# Altium integrated library TI_Logic_Gate.IntLib: 2017 symbols (part 30 of 56)
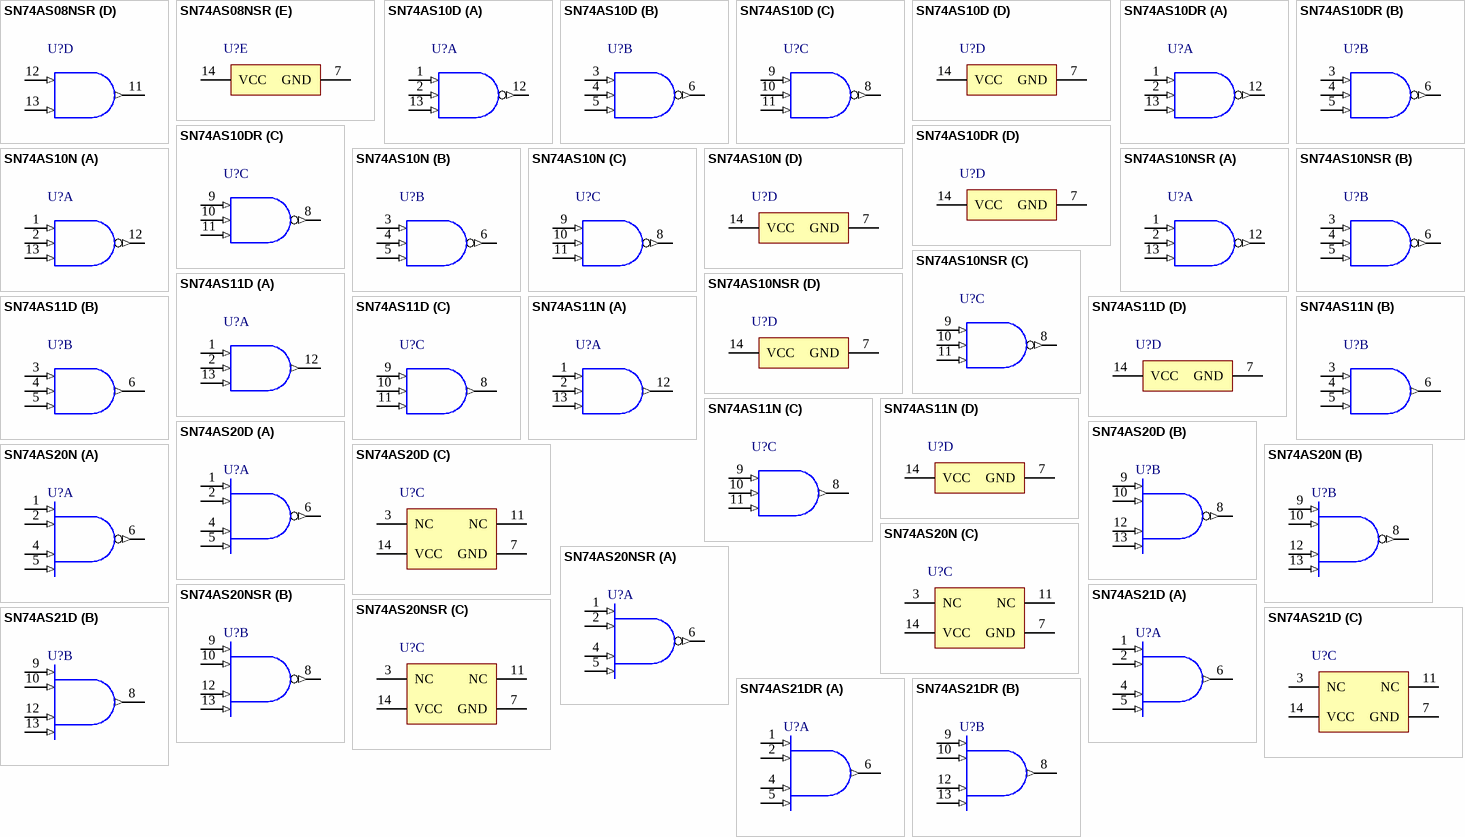
[diagram p254: symbols SN74AS08NSR to SN74AS21DR]

## SN74AS10DR
designator U?
Triple 3-Input Positive-NAND Gates, D0014A, LARGE T&R; Generic Part Number: SN74AS10; Manufacturer: Texas Instruments; PartNumber: SN74AS10DR; VCC(Min)(V): 4.5; VCC(Max)(V): 5.5; Output Type: TTL; ICC @ Nom Voltage(Max)(mA): 0.0022; Bits(#): 3; F @ Nom Voltage(Max)(Mhz): 35; Rating: Catalog; Technology Family: AS; Voltage(Nom)(V): 5; Schmitt Trigger: No; Output Drive (IOL/IOH)(Max)(mA): 0.4/-8; DatasheetVersion: SDAS002B; PackageReference: D0014A; Supplier 1: Mouser; Supplier Part Number 1: 595-SN74AS10DR; Supplier 2: Digi-Key; Supplier Part Number 2: 296-6333-2-ND; Supplier 3: Digi-Key; Supplier Part Number 3: 296-6333-1-ND; Supplier 4: Digi-Key; Supplier Part Number 4: 296-6333-6-ND; Input Type: TTL; Operating Temperature Range(C): 0 to 70; tpd @ Nom Voltage(Max)(ns): 4.5; Code_JEDEC: MS-012; ComponentLink1Description: Manufacturer URL; ComponentLink1URL: http://www.ti.com/; ComponentLink2Description: Datasheet; ComponentLink2URL: http://www.ti.com/lit/ds/symlink/sn74as10.pdf; ComponentLink3Description: Package Specification; ComponentLink3URL: http://www.ti.com/lit/ml/mpds177g/mpds177g.pdf
footprint D0014A_N (SOIC, 14-Leads, Body 8.75x4mm, Pitch 1.27mm, IPC Medium Density)
footprint D0014A_M (SOIC, 14-Leads, Body 8.75x4mm, Pitch 1.27mm, IPC Low Density)
footprint D0014A_L (SOIC, 14-Leads, Body 8.75x4mm, Pitch 1.27mm, IPC High Density)
part A pins: 1 1A (in), 2 1B (in), 12 1Y (out), 13 1C (in)
part B pins: 3 2A (in), 4 2B (in), 5 2C (in), 6 2Y (out)
part C pins: 8 3Y (out), 9 3A (in), 10 3B (in), 11 3C (in)
part D pins: 7 GND (power), 14 VCC (power)

## SN74AS10N
designator U?
Triple 3-Input Positive-NAND Gates, N0014A, TUBE; Generic Part Number: SN74AS10; Manufacturer: Texas Instruments; PartNumber: SN74AS10N; VCC(Min)(V): 4.5; VCC(Max)(V): 5.5; Output Type: TTL; ICC @ Nom Voltage(Max)(mA): 0.0022; Bits(#): 3; F @ Nom Voltage(Max)(Mhz): 35; Rating: Catalog; Technology Family: AS; Voltage(Nom)(V): 5; Schmitt Trigger: No; Output Drive (IOL/IOH)(Max)(mA): 0.4/-8; DatasheetVersion: SDAS002B; PackageReference: N0014A; Supplier 1: Mouser; Supplier Part Number 1: 595-SN74AS10N; Supplier 2: Digi-Key; Supplier Part Number 2: 296-6334-5-ND; Input Type: TTL; Operating Temperature Range(C): 0 to 70; tpd @ Nom Voltage(Max)(ns): 4.5; Code_JEDEC: MS-001; ComponentLink1Description: Manufacturer URL; ComponentLink1URL: http://www.ti.com/; ComponentLink2Description: Datasheet; ComponentLink2URL: http://www.ti.com/lit/ds/symlink/sn74as10.pdf; ComponentLink3Description: Package Specification; ComponentLink3URL: http://www.ti.com/lit/ml/mpdi002c/mpdi002c.pdf
footprint N0014A (DIP, 14-Leads, Body 19.7x6.6mm, Pitch 2.54mm)
part A pins: 1 1A (in), 2 1B (in), 12 1Y (out), 13 1C (in)
part B pins: 3 2A (in), 4 2B (in), 5 2C (in), 6 2Y (out)
part C pins: 8 3Y (out), 9 3A (in), 10 3B (in), 11 3C (in)
part D pins: 7 GND (power), 14 VCC (power)

## SN74AS10NSR
designator U?
Triple 3-Input Positive-NAND Gates, NS0014A, LARGE T&R; Generic Part Number: SN74AS10; Manufacturer: Texas Instruments; PartNumber: SN74AS10NSR; VCC(Min)(V): 4.5; VCC(Max)(V): 5.5; Output Type: TTL; ICC @ Nom Voltage(Max)(mA): 0.0022; Bits(#): 3; F @ Nom Voltage(Max)(Mhz): 35; Rating: Catalog; Technology Family: AS; Voltage(Nom)(V): 5; Schmitt Trigger: No; Output Drive (IOL/IOH)(Max)(mA): 0.4/-8; DatasheetVersion: SDAS002B; PackageReference: NS0014A; Supplier 1: Mouser; Supplier Part Number 1: 595-SN74AS10NSR; Supplier 2: Digi-Key; Supplier Part Number 2: SN74AS10NSR-ND; Input Type: TTL; Operating Temperature Range(C): 0 to 70; tpd @ Nom Voltage(Max)(ns): 4.5; ComponentLink1Description: Manufacturer URL; ComponentLink1URL: http://www.ti.com/; ComponentLink2Description: Datasheet; ComponentLink2URL: http://www.ti.com/lit/ds/symlink/sn74as10.pdf; ComponentLink3Description: Package Specification; ComponentLink3URL: http://www.ti.com/lit/ml/msop002a/msop002a.pdf
footprint NS0014A_N (SOIC,14-Leads,Body 10.5x5.6mm,Pitch 1.27mm,IPC Medium Density)
footprint NS0014A_M (SOIC,14-Leads,Body 10.5x5.6mm,Pitch 1.27mm,IPC Low Density)
footprint NS0014A_L (SOIC,14-Leads,Body 10.5x5.6mm,Pitch 0.4mm,IPC High Density)
part A pins: 1 1A (in), 2 1B (in), 12 1Y (out), 13 1C (in)
part B pins: 3 2A (in), 4 2B (in), 5 2C (in), 6 2Y (out)
part C pins: 8 3Y (out), 9 3A (in), 10 3B (in), 11 3C (in)
part D pins: 7 GND (power), 14 VCC (power)

## SN74AS11D
designator U?
Triple 3-Input Positive-AND Gates, D0014A, TUBE; Generic Part Number: SN74AS11; Manufacturer: Texas Instruments; PartNumber: SN74AS11D; VCC(Min)(V): 4.5; VCC(Max)(V): 5.5; Output Type: TTL; ICC @ Nom Voltage(Max)(mA): 0.0018; Bits(#): 3; F @ Nom Voltage(Max)(Mhz): 125; Rating: Catalog; Technology Family: AS; Voltage(Nom)(V): 5; Schmitt Trigger: No; Output Drive (IOL/IOH)(Max)(mA): -48/48; tpd @ Nom Voltage(Max)(ns): 13; DatasheetVersion: SDAS009D; PackageReference: D0014A; Supplier 1: Mouser; Supplier Part Number 1: 595-SN74AS11D; Supplier 2: Digi-Key; Supplier Part Number 2: 296-33792-5-ND; Input Type: TTL; Operating Temperature Range(C): 0 to 70; ComponentLink1Description: Manufacturer URL; ComponentLink1URL: http://www.ti.com/; ComponentLink2Description: Datasheet; ComponentLink2URL: http://www.ti.com/lit/ds/symlink/sn74as11.pdf
footprint D0014A_N (SOIC, 14-Leads, Body 8.75x4mm, Pitch 1.27mm, IPC Medium Density)
footprint D0014A_M (SOIC, 14-Leads, Body 8.75x4mm, Pitch 1.27mm, IPC Low Density)
footprint D0014A_L (SOIC, 14-Leads, Body 8.75x4mm, Pitch 1.27mm, IPC High Density)
part A pins: 1 1A (in), 2 1B (in), 12 1Y (out), 13 1C (in)
part B pins: 3 2A (in), 4 2B (in), 5 2C (in), 6 2Y (out)
part C pins: 8 3Y (out), 9 3A (in), 10 3B (in), 11 3C (in)
part D pins: 7 GND (power), 14 VCC (power)

## SN74AS11N
designator U?
Triple 3-Input Positive-AND Gates, N0014A, TUBE; Generic Part Number: SN74AS11; Manufacturer: Texas Instruments; PartNumber: SN74AS11N; VCC(Min)(V): 4.5; VCC(Max)(V): 5.5; Output Type: TTL; ICC @ Nom Voltage(Max)(mA): 0.0018; Bits(#): 3; F @ Nom Voltage(Max)(Mhz): 125; Rating: Catalog; Technology Family: AS; Voltage(Nom)(V): 5; Schmitt Trigger: No; Output Drive (IOL/IOH)(Max)(mA): -48/48; tpd @ Nom Voltage(Max)(ns): 13; DatasheetVersion: SDAS009D; PackageReference: N0014A; Supplier 1: Mouser; Supplier Part Number 1: 595-SN74AS11N; Supplier 2: Digi-Key; Supplier Part Number 2: 296-33793-5-ND; Input Type: TTL; Operating Temperature Range(C): 0 to 70; ComponentLink1Description: Manufacturer URL; ComponentLink1URL: http://www.ti.com/; ComponentLink2Description: Datasheet; ComponentLink2URL: http://www.ti.com/lit/ds/symlink/sn74as11.pdf
footprint N0014A (DIP, 14-Leads, Body 19.7x6.6mm, Pitch 2.54mm)
part A pins: 1 1A (in), 2 1B (in), 12 1Y (out), 13 1C (in)
part B pins: 3 2A (in), 4 2B (in), 5 2C (in), 6 2Y (out)
part C pins: 8 3Y (out), 9 3A (in), 10 3B (in), 11 3C (in)
part D pins: 7 GND (power), 14 VCC (power)

## SN74AS20D
designator U?
Dual 4-Input Positive-NAND Gates, D0014A, TUBE; Generic Part Number: SN74AS20; Manufacturer: Texas Instruments; PartNumber: SN74AS20D; VCC(Min)(V): 4.5; VCC(Max)(V): 5.5; Output Type: TTL; ICC @ Nom Voltage(Max)(mA): 0.0015; Bits(#): 2; F @ Nom Voltage(Max)(Mhz): 35; Rating: Catalog; Technology Family: AS; Voltage(Nom)(V): 5; Schmitt Trigger: No; Output Drive (IOL/IOH)(Max)(mA): 0.4/-8; tpd @ Nom Voltage(Max)(ns): 11; DatasheetVersion: SDAS192B; PackageReference: D0014A; Supplier 1: Mouser; Supplier Part Number 1: 595-SN74AS20D; Supplier 2: Digi-Key; Supplier Part Number 2: 296-6342-5-ND; Input Type: TTL; Operating Temperature Range(C): 0 to 70; Code_JEDEC: MS-012; ComponentLink1Description: Manufacturer URL; ComponentLink1URL: http://www.ti.com/; ComponentLink2Description: Datasheet; ComponentLink2URL: http://www.ti.com/lit/ds/symlink/sn74as20.pdf; ComponentLink3Description: Package Specification; ComponentLink3URL: http://www.ti.com/lit/ml/mpds177g/mpds177g.pdf
footprint D0014A_N (SOIC, 14-Leads, Body 8.75x4mm, Pitch 1.27mm, IPC Medium Density)
footprint D0014A_M (SOIC, 14-Leads, Body 8.75x4mm, Pitch 1.27mm, IPC Low Density)
footprint D0014A_L (SOIC, 14-Leads, Body 8.75x4mm, Pitch 1.27mm, IPC High Density)
part A pins: 1 1A (in), 2 1B (in), 4 1C (in), 5 1D (in), 6 1Y (out)
part B pins: 8 2Y (out), 9 2A (in), 10 2B (in), 12 2C (in), 13 2D (in)
part C pins: 3 NC, 7 GND (power), 11 NC, 14 VCC (power)

## SN74AS20N
designator U?
Dual 4-Input Positive-NAND Gates, N0014A, TUBE; Generic Part Number: SN74AS20; Manufacturer: Texas Instruments; PartNumber: SN74AS20N; VCC(Min)(V): 4.5; VCC(Max)(V): 5.5; Output Type: TTL; ICC @ Nom Voltage(Max)(mA): 0.0015; Bits(#): 2; F @ Nom Voltage(Max)(Mhz): 35; Rating: Catalog; Technology Family: AS; Voltage(Nom)(V): 5; Schmitt Trigger: No; Output Drive (IOL/IOH)(Max)(mA): 0.4/-8; tpd @ Nom Voltage(Max)(ns): 11; DatasheetVersion: SDAS192B; PackageReference: N0014A; Supplier 1: Mouser; Supplier Part Number 1: 595-SN74AS20N; Supplier 2: Digi-Key; Supplier Part Number 2: 296-33798-5-ND; Input Type: TTL; Operating Temperature Range(C): 0 to 70; Code_JEDEC: MS-001; ComponentLink1Description: Manufacturer URL; ComponentLink1URL: http://www.ti.com/; ComponentLink2Description: Datasheet; ComponentLink2URL: http://www.ti.com/lit/ds/symlink/sn74as20.pdf; ComponentLink3Description: Package Specification; ComponentLink3URL: http://www.ti.com/lit/ml/mpdi002c/mpdi002c.pdf
footprint N0014A (DIP, 14-Leads, Body 19.7x6.6mm, Pitch 2.54mm)
part A pins: 1 1A (in), 2 1B (in), 4 1C (in), 5 1D (in), 6 1Y (out)
part B pins: 8 2Y (out), 9 2A (in), 10 2B (in), 12 2C (in), 13 2D (in)
part C pins: 3 NC, 7 GND (power), 11 NC, 14 VCC (power)

## SN74AS20NSR
designator U?
Dual 4-Input Positive-NAND Gates, NS0014A, LARGE T&R; Generic Part Number: SN74AS20; Manufacturer: Texas Instruments; PartNumber: SN74AS20NSR; VCC(Min)(V): 4.5; VCC(Max)(V): 5.5; Output Type: TTL; ICC @ Nom Voltage(Max)(mA): 0.0015; Bits(#): 2; F @ Nom Voltage(Max)(Mhz): 35; Rating: Catalog; Technology Family: AS; Voltage(Nom)(V): 5; Schmitt Trigger: No; Output Drive (IOL/IOH)(Max)(mA): 0.4/-8; tpd @ Nom Voltage(Max)(ns): 11; DatasheetVersion: SDAS192B; PackageReference: NS0014A; Supplier 1: Mouser; Supplier Part Number 1: 595-SN74AS20NSR; Supplier 2: Digi-Key; Supplier Part Number 2: SN74AS20NSR-ND; Input Type: TTL; Operating Temperature Range(C): 0 to 70; ComponentLink1Description: Manufacturer URL; ComponentLink1URL: http://www.ti.com/; ComponentLink2Description: Datasheet; ComponentLink2URL: http://www.ti.com/lit/ds/symlink/sn74as20.pdf; ComponentLink3Description: Package Specification; ComponentLink3URL: http://www.ti.com/lit/ml/msop002a/msop002a.pdf
footprint NS0014A_N (SOIC,14-Leads,Body 10.5x5.6mm,Pitch 1.27mm,IPC Medium Density)
footprint NS0014A_M (SOIC,14-Leads,Body 10.5x5.6mm,Pitch 1.27mm,IPC Low Density)
footprint NS0014A_L (SOIC,14-Leads,Body 10.5x5.6mm,Pitch 0.4mm,IPC High Density)
part A pins: 1 1A (in), 2 1B (in), 4 1C (in), 5 1D (in), 6 1Y (out)
part B pins: 8 2Y (out), 9 2A (in), 10 2B (in), 12 2C (in), 13 2D (in)
part C pins: 3 NC, 7 GND (power), 11 NC, 14 VCC (power)

## SN74AS21D
designator U?
Dual 4-Input Positive-AND Gates, D0014A, TUBE; Generic Part Number: SN74AS21; Manufacturer: Texas Instruments; PartNumber: SN74AS21D; VCC(Min)(V): 4.5; VCC(Max)(V): 5.5; Output Type: TTL; ICC @ Nom Voltage(Max)(mA): 0.0014; Bits(#): 2; F @ Nom Voltage(Max)(Mhz): 125; Rating: Catalog; Technology Family: AS; Voltage(Nom)(V): 5; Schmitt Trigger: No; Output Drive (IOL/IOH)(Max)(mA): -48/48; tpd @ Nom Voltage(Max)(ns): 15; DatasheetVersion: SDAS085B; PackageReference: D0014A; Supplier 1: Mouser; Supplier Part Number 1: 595-SN74AS21D; Supplier 2: Digi-Key; Supplier Part Number 2: 296-33799-5-ND; Input Type: TTL; Operating Temperature Range(C): 0 to 70; ComponentLink1Description: Manufacturer URL; ComponentLink1URL: http://www.ti.com/; ComponentLink2Description: Datasheet; ComponentLink2URL: http://www.ti.com/lit/ds/symlink/sn74as21.pdf
footprint D0014A_N (SOIC, 14-Leads, Body 8.75x4mm, Pitch 1.27mm, IPC Medium Density)
footprint D0014A_M (SOIC, 14-Leads, Body 8.75x4mm, Pitch 1.27mm, IPC Low Density)
footprint D0014A_L (SOIC, 14-Leads, Body 8.75x4mm, Pitch 1.27mm, IPC High Density)
part A pins: 1 1A (in), 2 1B (in), 4 1C (in), 5 1D (in), 6 1Y (out)
part B pins: 8 2Y (out), 9 2A (in), 10 2B (in), 12 2C (in), 13 2D (in)
part C pins: 3 NC, 7 GND (power), 11 NC, 14 VCC (power)

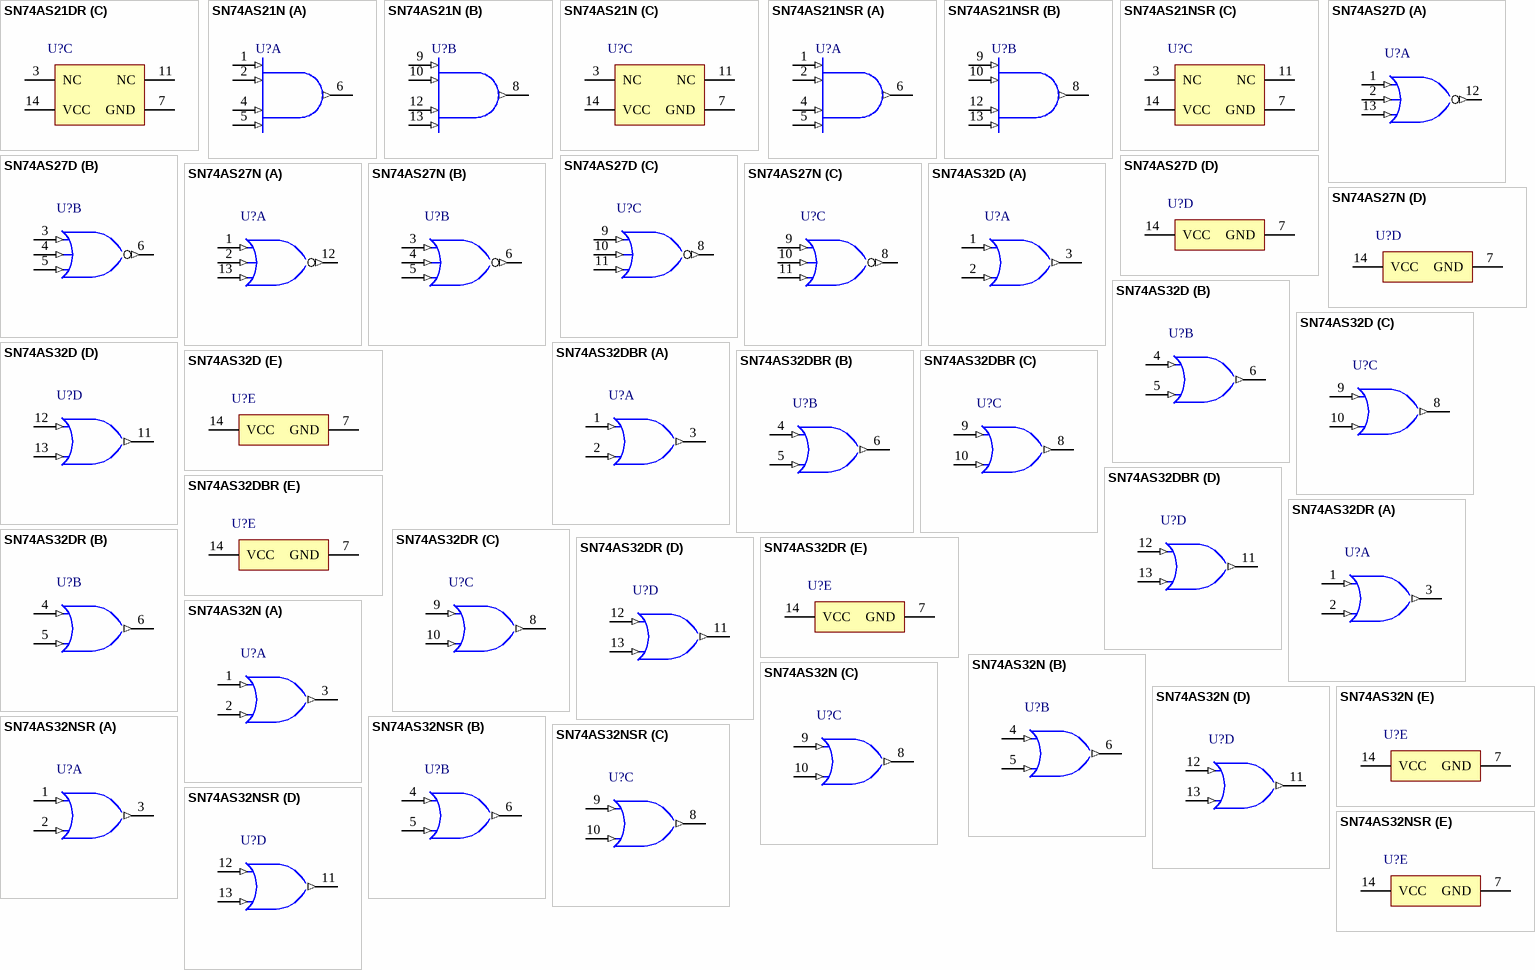
[diagram p119: symbols SN74AS21DR to SN74AS32NSR]

## SN74AS21DR
designator U?
Dual 4-Input Positive-AND Gates, D0014A, LARGE T&R; Generic Part Number: SN74AS21; Manufacturer: Texas Instruments; PartNumber: SN74AS21DR; VCC(Min)(V): 4.5; VCC(Max)(V): 5.5; Output Type: TTL; ICC @ Nom Voltage(Max)(mA): 0.0014; Bits(#): 2; F @ Nom Voltage(Max)(Mhz): 125; Rating: Catalog; Technology Family: AS; Voltage(Nom)(V): 5; Schmitt Trigger: No; Output Drive (IOL/IOH)(Max)(mA): -48/48; tpd @ Nom Voltage(Max)(ns): 15; DatasheetVersion: SDAS085B; PackageReference: D0014A; Supplier 1: Mouser; Supplier Part Number 1: 595-SN74AS21DR; Supplier 2: Digi-Key; Supplier Part Number 2: SN74AS21DR-ND; Input Type: TTL; Operating Temperature Range(C): 0 to 70; ComponentLink1Description: Manufacturer URL; ComponentLink1URL: http://www.ti.com/; ComponentLink2Description: Datasheet; ComponentLink2URL: http://www.ti.com/lit/ds/symlink/sn74as21.pdf
footprint D0014A_N (SOIC, 14-Leads, Body 8.75x4mm, Pitch 1.27mm, IPC Medium Density)
footprint D0014A_M (SOIC, 14-Leads, Body 8.75x4mm, Pitch 1.27mm, IPC Low Density)
footprint D0014A_L (SOIC, 14-Leads, Body 8.75x4mm, Pitch 1.27mm, IPC High Density)
part A pins: 1 1A (in), 2 1B (in), 4 1C (in), 5 1D (in), 6 1Y (out)
part B pins: 8 2Y (out), 9 2A (in), 10 2B (in), 12 2C (in), 13 2D (in)
part C pins: 3 NC, 7 GND (power), 11 NC, 14 VCC (power)

## SN74AS21N
designator U?
Dual 4-Input Positive-AND Gates, N0014A, TUBE; Generic Part Number: SN74AS21; Manufacturer: Texas Instruments; PartNumber: SN74AS21N; VCC(Min)(V): 4.5; VCC(Max)(V): 5.5; Output Type: TTL; ICC @ Nom Voltage(Max)(mA): 0.0014; Bits(#): 2; F @ Nom Voltage(Max)(Mhz): 125; Rating: Catalog; Technology Family: AS; Voltage(Nom)(V): 5; Schmitt Trigger: No; Output Drive (IOL/IOH)(Max)(mA): -48/48; tpd @ Nom Voltage(Max)(ns): 15; DatasheetVersion: SDAS085B; PackageReference: N0014A; Supplier 1: Mouser; Supplier Part Number 1: 595-SN74AS21N; Supplier 2: Digi-Key; Supplier Part Number 2: 296-33800-5-ND; Input Type: TTL; Operating Temperature Range(C): 0 to 70; ComponentLink1Description: Manufacturer URL; ComponentLink1URL: http://www.ti.com/; ComponentLink2Description: Datasheet; ComponentLink2URL: http://www.ti.com/lit/ds/symlink/sn74as21.pdf
footprint N0014A (DIP, 14-Leads, Body 19.7x6.6mm, Pitch 2.54mm)
part A pins: 1 1A (in), 2 1B (in), 4 1C (in), 5 1D (in), 6 1Y (out)
part B pins: 8 2Y (out), 9 2A (in), 10 2B (in), 12 2C (in), 13 2D (in)
part C pins: 3 NC, 7 GND (power), 11 NC, 14 VCC (power)

## SN74AS21NSR
designator U?
Dual 4-Input Positive-AND Gates, NS0014A, LARGE T&R; Generic Part Number: SN74AS21; Manufacturer: Texas Instruments; PartNumber: SN74AS21NSR; VCC(Min)(V): 4.5; VCC(Max)(V): 5.5; Output Type: TTL; ICC @ Nom Voltage(Max)(mA): 0.0014; Bits(#): 2; F @ Nom Voltage(Max)(Mhz): 125; Rating: Catalog; Technology Family: AS; Voltage(Nom)(V): 5; Schmitt Trigger: No; Output Drive (IOL/IOH)(Max)(mA): -48/48; tpd @ Nom Voltage(Max)(ns): 15; DatasheetVersion: SDAS085B; PackageReference: NS0014A; Supplier 1: Mouser; Supplier Part Number 1: 595-SN74AS21NSR; Supplier 2: Digi-Key; Supplier Part Number 2: 296-13162-2-ND; Supplier 3: Digi-Key; Supplier Part Number 3: 296-13162-1-ND; Supplier 4: Digi-Key; Supplier Part Number 4: 296-13162-6-ND; Input Type: TTL; Operating Temperature Range(C): 0 to 70; ComponentLink1Description: Manufacturer URL; ComponentLink1URL: http://www.ti.com/; ComponentLink2Description: Datasheet; ComponentLink2URL: http://www.ti.com/lit/ds/symlink/sn74as21.pdf
footprint NS0014A_N (SOIC,14-Leads,Body 10.5x5.6mm,Pitch 1.27mm,IPC Medium Density)
footprint NS0014A_M (SOIC,14-Leads,Body 10.5x5.6mm,Pitch 1.27mm,IPC Low Density)
footprint NS0014A_L (SOIC,14-Leads,Body 10.5x5.6mm,Pitch 0.4mm,IPC High Density)
part A pins: 1 1A (in), 2 1B (in), 4 1C (in), 5 1D (in), 6 1Y (out)
part B pins: 8 2Y (out), 9 2A (in), 10 2B (in), 12 2C (in), 13 2D (in)
part C pins: 3 NC, 7 GND (power), 11 NC, 14 VCC (power)

## SN74AS27D
designator U?
Triple 3-Input Positive-NOR Gates, D0014A, TUBE; Generic Part Number: SN74AS27; Manufacturer: Texas Instruments; PartNumber: SN74AS27D; VCC(Min)(V): 4.5; VCC(Max)(V): 5.5; Output Type: TTL; Bits(#): 3; Rating: Catalog; tpd @ Nom Voltage(Max)(ns): 15; ICC @ Nom Voltage(Max)(mA): 0.004; F @ Nom Voltage(Max)(Mhz): 35; Voltage(Nom)(V): 5; Output Drive (IOL/IOH)(Max)(mA): 0.4/-8; DatasheetVersion: SDAS112B; PackageReference: D0014A; Input Type: TTL; Operating Temperature Range(C): 0 to 70; Code_JEDEC: MS-012; ComponentLink1Description: Manufacturer URL; ComponentLink1URL: http://www.ti.com/; ComponentLink2Description: Datasheet; ComponentLink2URL: http://www.ti.com/lit/ds/symlink/sn74as27.pdf; ComponentLink3Description: Package Specification; ComponentLink3URL: http://www.ti.com/lit/ml/mpds177g/mpds177g.pdf
footprint D0014A_N (SOIC, 14-Leads, Body 8.75x4mm, Pitch 1.27mm, IPC Medium Density)
footprint D0014A_M (SOIC, 14-Leads, Body 8.75x4mm, Pitch 1.27mm, IPC Low Density)
footprint D0014A_L (SOIC, 14-Leads, Body 8.75x4mm, Pitch 1.27mm, IPC High Density)
part A pins: 1 1A (in), 2 1B (in), 12 1Y (out), 13 1C (in)
part B pins: 3 2A (in), 4 2B (in), 5 2C (in), 6 2Y (out)
part C pins: 8 3Y (out), 9 3A (in), 10 3B (in), 11 3C (in)
part D pins: 7 GND (power), 14 VCC (power)

## SN74AS27N
designator U?
Triple 3-Input Positive-NOR Gates, N0014A, TUBE; Generic Part Number: SN74AS27; Manufacturer: Texas Instruments; PartNumber: SN74AS27N; VCC(Min)(V): 4.5; VCC(Max)(V): 5.5; Output Type: TTL; Bits(#): 3; Rating: Catalog; tpd @ Nom Voltage(Max)(ns): 15; ICC @ Nom Voltage(Max)(mA): 0.004; F @ Nom Voltage(Max)(Mhz): 35; Voltage(Nom)(V): 5; Output Drive (IOL/IOH)(Max)(mA): 0.4/-8; DatasheetVersion: SDAS112B; PackageReference: N0014A; Input Type: TTL; Operating Temperature Range(C): 0 to 70; Code_JEDEC: MS-001; ComponentLink1Description: Manufacturer URL; ComponentLink1URL: http://www.ti.com/; ComponentLink2Description: Datasheet; ComponentLink2URL: http://www.ti.com/lit/ds/symlink/sn74as27.pdf; ComponentLink3Description: Package Specification; ComponentLink3URL: http://www.ti.com/lit/ml/mpdi002c/mpdi002c.pdf
footprint N0014A (DIP, 14-Leads, Body 19.7x6.6mm, Pitch 2.54mm)
part A pins: 1 1A (in), 2 1B (in), 12 1Y (out), 13 1C (in)
part B pins: 3 2A (in), 4 2B (in), 5 2C (in), 6 2Y (out)
part C pins: 8 3Y (out), 9 3A (in), 10 3B (in), 11 3C (in)
part D pins: 7 GND (power), 14 VCC (power)

## SN74AS32D
designator U?
Quadruple 2-Input Positive-OR Gates, D0014A, TUBE; Generic Part Number: SN74AS32; Manufacturer: Texas Instruments; PartNumber: SN74AS32D; VCC(Min)(V): 4.5; VCC(Max)(V): 5.5; Output Type: TTL; ICC @ Nom Voltage(Max)(mA): 0.0049; Bits(#): 4; F @ Nom Voltage(Max)(Mhz): 35; Rating: Catalog; Voltage(Nom)(V): 5; Output Drive (IOL/IOH)(Max)(mA): 0.4/-8; tpd @ Nom Voltage(Max)(ns): 14; DatasheetVersion: SDAS113B; PackageReference: D0014A; Input Type: TTL; Operating Temperature Range(C): 0 to 70; Code_JEDEC: MS-012; ComponentLink1Description: Manufacturer URL; ComponentLink1URL: http://www.ti.com/; ComponentLink2Description: Datasheet; ComponentLink2URL: http://www.ti.com/lit/ds/symlink/sn74as32.pdf; ComponentLink3Description: Package Specification; ComponentLink3URL: http://www.ti.com/lit/ml/mpds177g/mpds177g.pdf
footprint D0014A_N (SOIC, 14-Leads, Body 8.75x4mm, Pitch 1.27mm, IPC Medium Density)
footprint D0014A_M (SOIC, 14-Leads, Body 8.75x4mm, Pitch 1.27mm, IPC Low Density)
footprint D0014A_L (SOIC, 14-Leads, Body 8.75x4mm, Pitch 1.27mm, IPC High Density)
part A pins: 1 1A (in), 2 1B (in), 3 1Y (out)
part B pins: 4 2A (in), 5 2B (in), 6 2Y (out)
part C pins: 8 3Y (out), 9 3A (in), 10 3B (in)
part D pins: 11 4Y (out), 12 4A (in), 13 4B (in)
part E pins: 7 GND (power), 14 VCC (power)

## SN74AS32DBR
designator U?
Quadruple 2-Input Positive-OR Gates, DB0014A, LARGE T&R; Generic Part Number: SN74AS32; Manufacturer: Texas Instruments; PartNumber: SN74AS32DBR; VCC(Min)(V): 4.5; VCC(Max)(V): 5.5; Output Type: TTL; ICC @ Nom Voltage(Max)(mA): 0.0049; Bits(#): 4; F @ Nom Voltage(Max)(Mhz): 35; Rating: Catalog; Voltage(Nom)(V): 5; Output Drive (IOL/IOH)(Max)(mA): 0.4/-8; tpd @ Nom Voltage(Max)(ns): 14; DatasheetVersion: SDAS113B; PackageReference: DB0014A; Input Type: TTL; Operating Temperature Range(C): 0 to 70; Code_JEDEC: MO-150; ComponentLink1Description: Manufacturer URL; ComponentLink1URL: http://www.ti.com/; ComponentLink2Description: Datasheet; ComponentLink2URL: http://www.ti.com/lit/ds/symlink/sn74as32.pdf; ComponentLink3Description: Package Specification; ComponentLink3URL: http://www.ti.com/lit/ml/msso002e/msso002e.pdf
footprint DB0014A_N (SOP, 14-Leads, Body 5.6x6.5mm, Pitch 0.65mm, IPC Medium Density)
footprint DB0014A_M (SOP, 14-Leads, Body 5.6x6.5mm, Pitch 0.65mm, IPC Low Density)
footprint DB0014A_L (SOP, 14-Leads, Body 5.6x6.5mm, Pitch 0.65mm, IPC High Density)
part A pins: 1 1A (in), 2 1B (in), 3 1Y (out)
part B pins: 4 2A (in), 5 2B (in), 6 2Y (out)
part C pins: 8 3Y (out), 9 3A (in), 10 3B (in)
part D pins: 11 4Y (out), 12 4A (in), 13 4B (in)
part E pins: 7 GND (power), 14 VCC (power)

## SN74AS32DR
designator U?
Quadruple 2-Input Positive-OR Gates, D0014A, LARGE T&R; Generic Part Number: SN74AS32; Manufacturer: Texas Instruments; PartNumber: SN74AS32DR; VCC(Min)(V): 4.5; VCC(Max)(V): 5.5; Output Type: TTL; ICC @ Nom Voltage(Max)(mA): 0.0049; Bits(#): 4; F @ Nom Voltage(Max)(Mhz): 35; Rating: Catalog; Voltage(Nom)(V): 5; Output Drive (IOL/IOH)(Max)(mA): 0.4/-8; tpd @ Nom Voltage(Max)(ns): 14; DatasheetVersion: SDAS113B; PackageReference: D0014A; Input Type: TTL; Operating Temperature Range(C): 0 to 70; Code_JEDEC: MS-012; ComponentLink1Description: Manufacturer URL; ComponentLink1URL: http://www.ti.com/; ComponentLink2Description: Datasheet; ComponentLink2URL: http://www.ti.com/lit/ds/symlink/sn74as32.pdf; ComponentLink3Description: Package Specification; ComponentLink3URL: http://www.ti.com/lit/ml/mpds177g/mpds177g.pdf
footprint D0014A_N (SOIC, 14-Leads, Body 8.75x4mm, Pitch 1.27mm, IPC Medium Density)
footprint D0014A_M (SOIC, 14-Leads, Body 8.75x4mm, Pitch 1.27mm, IPC Low Density)
footprint D0014A_L (SOIC, 14-Leads, Body 8.75x4mm, Pitch 1.27mm, IPC High Density)
part A pins: 1 1A (in), 2 1B (in), 3 1Y (out)
part B pins: 4 2A (in), 5 2B (in), 6 2Y (out)
part C pins: 8 3Y (out), 9 3A (in), 10 3B (in)
part D pins: 11 4Y (out), 12 4A (in), 13 4B (in)
part E pins: 7 GND (power), 14 VCC (power)

## SN74AS32N
designator U?
Quadruple 2-Input Positive-OR Gates, N0014A, TUBE; Generic Part Number: SN74AS32; Manufacturer: Texas Instruments; PartNumber: SN74AS32N; VCC(Min)(V): 4.5; VCC(Max)(V): 5.5; Output Type: TTL; ICC @ Nom Voltage(Max)(mA): 0.0049; Bits(#): 4; F @ Nom Voltage(Max)(Mhz): 35; Rating: Catalog; Voltage(Nom)(V): 5; Output Drive (IOL/IOH)(Max)(mA): 0.4/-8; tpd @ Nom Voltage(Max)(ns): 14; DatasheetVersion: SDAS113B; PackageReference: N0014A; Input Type: TTL; Operating Temperature Range(C): 0 to 70; Code_JEDEC: MS-001; ComponentLink1Description: Manufacturer URL; ComponentLink1URL: http://www.ti.com/; ComponentLink2Description: Datasheet; ComponentLink2URL: http://www.ti.com/lit/ds/symlink/sn74as32.pdf; ComponentLink3Description: Package Specification; ComponentLink3URL: http://www.ti.com/lit/ml/mpdi002c/mpdi002c.pdf
footprint N0014A (DIP, 14-Leads, Body 19.7x6.6mm, Pitch 2.54mm)
part A pins: 1 1A (in), 2 1B (in), 3 1Y (out)
part B pins: 4 2A (in), 5 2B (in), 6 2Y (out)
part C pins: 8 3Y (out), 9 3A (in), 10 3B (in)
part D pins: 11 4Y (out), 12 4A (in), 13 4B (in)
part E pins: 7 GND (power), 14 VCC (power)

## SN74AS32NSR
designator U?
Quadruple 2-Input Positive-OR Gates, NS0014A, LARGE T&R; Generic Part Number: SN74AS32; Manufacturer: Texas Instruments; PartNumber: SN74AS32NSR; VCC(Min)(V): 4.5; VCC(Max)(V): 5.5; Output Type: TTL; ICC @ Nom Voltage(Max)(mA): 0.0049; Bits(#): 4; F @ Nom Voltage(Max)(Mhz): 35; Rating: Catalog; Voltage(Nom)(V): 5; Output Drive (IOL/IOH)(Max)(mA): 0.4/-8; tpd @ Nom Voltage(Max)(ns): 14; DatasheetVersion: SDAS113B; PackageReference: NS0014A; Input Type: TTL; Operating Temperature Range(C): 0 to 70; ComponentLink1Description: Manufacturer URL; ComponentLink1URL: http://www.ti.com/; ComponentLink2Description: Datasheet; ComponentLink2URL: http://www.ti.com/lit/ds/symlink/sn74as32.pdf; ComponentLink3Description: Package Specification; ComponentLink3URL: http://www.ti.com/lit/ml/msop002a/msop002a.pdf
footprint NS0014A_N (SOIC,14-Leads,Body 10.5x5.6mm,Pitch 1.27mm,IPC Medium Density)
footprint NS0014A_M (SOIC,14-Leads,Body 10.5x5.6mm,Pitch 1.27mm,IPC Low Density)
footprint NS0014A_L (SOIC,14-Leads,Body 10.5x5.6mm,Pitch 0.4mm,IPC High Density)
part A pins: 1 1A (in), 2 1B (in), 3 1Y (out)
part B pins: 4 2A (in), 5 2B (in), 6 2Y (out)
part C pins: 8 3Y (out), 9 3A (in), 10 3B (in)
part D pins: 11 4Y (out), 12 4A (in), 13 4B (in)
part E pins: 7 GND (power), 14 VCC (power)

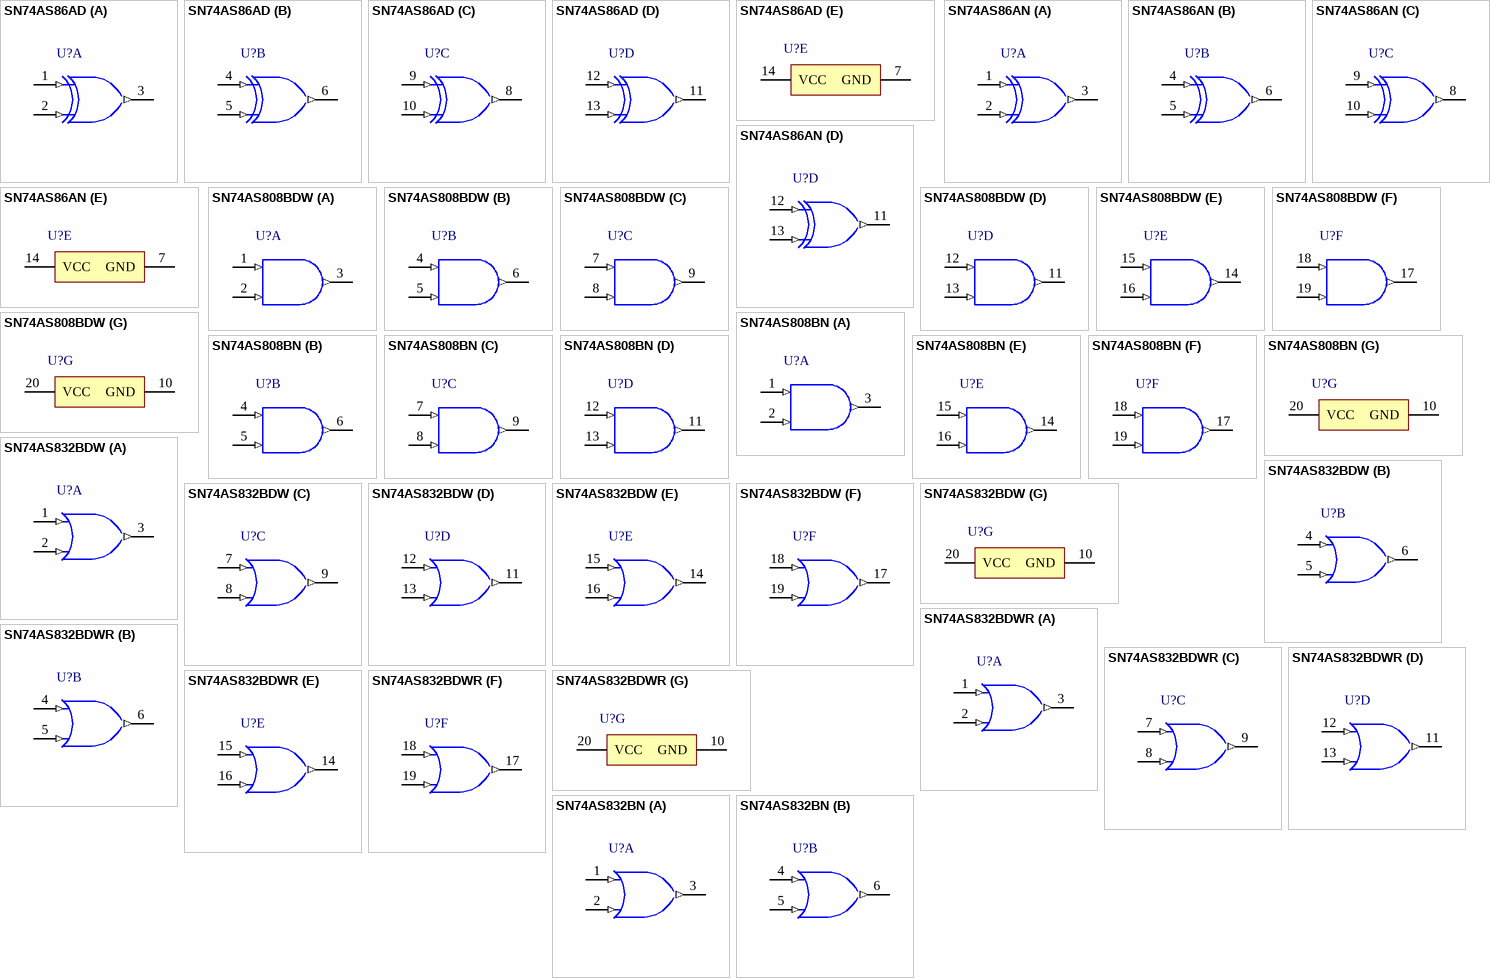
[diagram p120: symbols SN74AS86AD to SN74AS832BN]

## SN74AS86AD
designator U?
Quadruple 2-Input Exclusive-OR Gates, D0014A, TUBE; Generic Part Number: SN74AS86A; Manufacturer: Texas Instruments; PartNumber: SN74AS86AD; VCC(Min)(V): 4.5; VCC(Max)(V): 5.5; Output Type: TTL; ICC @ Nom Voltage(Max)(mA): 0.0059; Bits(#): 4; F @ Nom Voltage(Max)(Mhz): 35; Rating: Catalog; Technology Family: AS; Voltage(Nom)(V): 5; Schmitt Trigger: No; Output Drive (IOL/IOH)(Max)(mA): 2/-20; tpd @ Nom Voltage(Max)(ns): 17; DatasheetVersion: SDAS006B; PackageReference: D0014A; Supplier 1: Mouser; Supplier Part Number 1: 595-SN74AS86AD; Supplier 2: Digi-Key; Supplier Part Number 2: SN74AS86AD-ND; Input Type: TTL; Operating Temperature Range(C): 0 to 70; ComponentLink1Description: Manufacturer URL; ComponentLink1URL: http://www.ti.com/; ComponentLink2Description: Datasheet; ComponentLink2URL: http://www.ti.com/lit/ds/symlink/sn74as86a.pdf
footprint D0014A_N (SOIC, 14-Leads, Body 8.75x4mm, Pitch 1.27mm, IPC Medium Density)
footprint D0014A_M (SOIC, 14-Leads, Body 8.75x4mm, Pitch 1.27mm, IPC Low Density)
footprint D0014A_L (SOIC, 14-Leads, Body 8.75x4mm, Pitch 1.27mm, IPC High Density)
part A pins: 1 1A (in), 2 1B (in), 3 1Y (out)
part B pins: 4 2A (in), 5 2B (in), 6 2Y (out)
part C pins: 8 3Y (out), 9 3A (in), 10 3B (in)
part D pins: 11 4Y (out), 12 4A (in), 13 4B (in)
part E pins: 7 GND (power), 14 VCC (power)

## SN74AS86AN
designator U?
Quadruple 2-Input Exclusive-OR Gates, N0014A, TUBE; Generic Part Number: SN74AS86A; Manufacturer: Texas Instruments; PartNumber: SN74AS86AN; VCC(Min)(V): 4.5; VCC(Max)(V): 5.5; Output Type: TTL; ICC @ Nom Voltage(Max)(mA): 0.0059; Bits(#): 4; F @ Nom Voltage(Max)(Mhz): 35; Rating: Catalog; Technology Family: AS; Voltage(Nom)(V): 5; Schmitt Trigger: No; Output Drive (IOL/IOH)(Max)(mA): 2/-20; tpd @ Nom Voltage(Max)(ns): 17; DatasheetVersion: SDAS006B; PackageReference: N0014A; Supplier 1: Mouser; Supplier Part Number 1: 595-SN74AS86AN; Supplier 2: Digi-Key; Supplier Part Number 2: 296-33823-5-ND; Input Type: TTL; Operating Temperature Range(C): 0 to 70; ComponentLink1Description: Manufacturer URL; ComponentLink1URL: http://www.ti.com/; ComponentLink2Description: Datasheet; ComponentLink2URL: http://www.ti.com/lit/ds/symlink/sn74as86a.pdf
footprint N0014A (DIP, 14-Leads, Body 19.7x6.6mm, Pitch 2.54mm)
part A pins: 1 1A (in), 2 1B (in), 3 1Y (out)
part B pins: 4 2A (in), 5 2B (in), 6 2Y (out)
part C pins: 8 3Y (out), 9 3A (in), 10 3B (in)
part D pins: 11 4Y (out), 12 4A (in), 13 4B (in)
part E pins: 7 GND (power), 14 VCC (power)

## SN74AS808BDW
designator U?
Hex 2-Input AND Drivers, DW0020A, TUBE; Generic Part Number: SN74AS808B; Manufacturer: Texas Instruments; PartNumber: SN74AS808BDW; VCC(Min)(V): 4.5; VCC(Max)(V): 5.5; Output Type: TTL; ICC @ Nom Voltage(Max)(mA): 0.013; Bits(#): 6; F @ Nom Voltage(Max)(Mhz): 125; Rating: Catalog; Technology Family: AS; Voltage(Nom)(V): 5; Schmitt Trigger: No; Output Drive (IOL/IOH)(Max)(mA): -2/20; DatasheetVersion: SDAS018C; PackageReference: DW0020A; Supplier 1: Mouser; Supplier Part Number 1: 595-SN74AS808BDW; Supplier 2: Digi-Key; Supplier Part Number 2: 296-33820-5-ND; Input Type: TTL; Operating Temperature Range(C): 0 to 70; tpd @ Nom Voltage(Max)(ns): 6; ComponentLink1Description: Manufacturer URL; ComponentLink1URL: http://www.ti.com/; ComponentLink2Description: Datasheet; ComponentLink2URL: http://www.ti.com/lit/ds/symlink/sn74as808b.pdf
footprint DW0020A_N (SOIC, 20-Leads, Body 13x7.6mm, Pitch 1.27mm, IPC Medium Density)
footprint DW0020A_M (SOIC, 20-Leads, Body 13x7.6mm, Pitch 1.27mm, IPC Low Density)
footprint DW0020A_L (SOIC, 20-Leads, Body 13x7.6mm, Pitch 1.27mm, IPC High Density)
part A pins: 1 1A (in), 2 1B (in), 3 1Y (out)
part B pins: 4 2A (in), 5 2B (in), 6 2Y (out)
part C pins: 7 3A (in), 8 3B (in), 9 3Y (out)
part D pins: 11 4Y (out), 12 4A (in), 13 4B (in)
part E pins: 14 5Y (out), 15 5A (in), 16 5B (in)
part F pins: 17 6Y (out), 18 6A (in), 19 6B (in)
part G pins: 10 GND (power), 20 VCC (power)

## SN74AS808BN
designator U?
Hex 2-Input AND Drivers, N0020A, TUBE; Generic Part Number: SN74AS808B; Manufacturer: Texas Instruments; PartNumber: SN74AS808BN; VCC(Min)(V): 4.5; VCC(Max)(V): 5.5; Output Type: TTL; ICC @ Nom Voltage(Max)(mA): 0.013; Bits(#): 6; F @ Nom Voltage(Max)(Mhz): 125; Rating: Catalog; Technology Family: AS; Voltage(Nom)(V): 5; Schmitt Trigger: No; Output Drive (IOL/IOH)(Max)(mA): -2/20; DatasheetVersion: SDAS018C; PackageReference: N0020A; Supplier 1: Mouser; Supplier Part Number 1: 595-SN74AS808BN; Supplier 2: Digi-Key; Supplier Part Number 2: 296-6374-5-ND; Input Type: TTL; Operating Temperature Range(C): 0 to 70; tpd @ Nom Voltage(Max)(ns): 6; ComponentLink1Description: Manufacturer URL; ComponentLink1URL: http://www.ti.com/; ComponentLink2Description: Datasheet; ComponentLink2URL: http://www.ti.com/lit/ds/symlink/sn74as808b.pdf
footprint N0020A (DIP, 20-Leads, Body 26.9x6.6mm, Pitch 2.54mm)
part A pins: 1 1A (in), 2 1B (in), 3 1Y (out)
part B pins: 4 2A (in), 5 2B (in), 6 2Y (out)
part C pins: 7 3A (in), 8 3B (in), 9 3Y (out)
part D pins: 11 4Y (out), 12 4A (in), 13 4B (in)
part E pins: 14 5Y (out), 15 5A (in), 16 5B (in)
part F pins: 17 6Y (out), 18 6A (in), 19 6B (in)
part G pins: 10 GND (power), 20 VCC (power)

## SN74AS832BDW
designator U?
Hex 2-Input OR Drivers, DW0020A, TUBE; Generic Part Number: SN74AS832B; Manufacturer: Texas Instruments; PartNumber: SN74AS832BDW; VCC(Min)(V): 4.5; VCC(Max)(V): 5.5; Output Type: TTL; ICC @ Nom Voltage(Max)(mA): 0.016; Bits(#): 6; F @ Nom Voltage(Max)(Mhz): 35; Rating: Catalog; Voltage(Nom)(V): 5; Output Drive (IOL/IOH)(Max)(mA): 15/-24; tpd @ Nom Voltage(Max)(ns): 9; DatasheetVersion: SDAS017C; PackageReference: DW0020A; Input Type: TTL; Operating Temperature Range(C): 0 to 70; Code_JEDEC: MS-013; ComponentLink1Description: Manufacturer URL; ComponentLink1URL: http://www.ti.com/; ComponentLink2Description: Datasheet; ComponentLink2URL: http://www.ti.com/lit/ds/symlink/sn74as832b.pdf; ComponentLink3Description: Package Specification; ComponentLink3URL: http://www.ti.com/lit/ml/mpds173a/mpds173a.pdf
footprint DW0020A_N (SOIC, 20-Leads, Body 13x7.6mm, Pitch 1.27mm, IPC Medium Density)
footprint DW0020A_M (SOIC, 20-Leads, Body 13x7.6mm, Pitch 1.27mm, IPC Low Density)
footprint DW0020A_L (SOIC, 20-Leads, Body 13x7.6mm, Pitch 1.27mm, IPC High Density)
part A pins: 1 1A (in), 2 1B (in), 3 1Y (out)
part B pins: 4 2A (in), 5 2B (in), 6 2Y (out)
part C pins: 7 3A (in), 8 3B (in), 9 3Y (out)
part D pins: 11 4Y (out), 12 4A (in), 13 4B (in)
part E pins: 14 5Y (out), 15 5A (in), 16 5B (in)
part F pins: 17 6Y (out), 18 6A (in), 19 6B (in)
part G pins: 10 GND (power), 20 VCC (power)

## SN74AS832BDWR
designator U?
Hex 2-Input OR Drivers, DW0020A, LARGE T&R; Generic Part Number: SN74AS832B; Manufacturer: Texas Instruments; PartNumber: SN74AS832BDWR; VCC(Min)(V): 4.5; VCC(Max)(V): 5.5; Output Type: TTL; ICC @ Nom Voltage(Max)(mA): 0.016; Bits(#): 6; F @ Nom Voltage(Max)(Mhz): 35; Rating: Catalog; Voltage(Nom)(V): 5; Output Drive (IOL/IOH)(Max)(mA): 15/-24; tpd @ Nom Voltage(Max)(ns): 9; DatasheetVersion: SDAS017C; PackageReference: DW0020A; Input Type: TTL; Operating Temperature Range(C): 0 to 70; Code_JEDEC: MS-013; ComponentLink1Description: Manufacturer URL; ComponentLink1URL: http://www.ti.com/; ComponentLink2Description: Datasheet; ComponentLink2URL: http://www.ti.com/lit/ds/symlink/sn74as832b.pdf; ComponentLink3Description: Package Specification; ComponentLink3URL: http://www.ti.com/lit/ml/mpds173a/mpds173a.pdf
footprint DW0020A_N (SOIC, 20-Leads, Body 13x7.6mm, Pitch 1.27mm, IPC Medium Density)
footprint DW0020A_M (SOIC, 20-Leads, Body 13x7.6mm, Pitch 1.27mm, IPC Low Density)
footprint DW0020A_L (SOIC, 20-Leads, Body 13x7.6mm, Pitch 1.27mm, IPC High Density)
part A pins: 1 1A (in), 2 1B (in), 3 1Y (out)
part B pins: 4 2A (in), 5 2B (in), 6 2Y (out)
part C pins: 7 3A (in), 8 3B (in), 9 3Y (out)
part D pins: 11 4Y (out), 12 4A (in), 13 4B (in)
part E pins: 14 5Y (out), 15 5A (in), 16 5B (in)
part F pins: 17 6Y (out), 18 6A (in), 19 6B (in)
part G pins: 10 GND (power), 20 VCC (power)

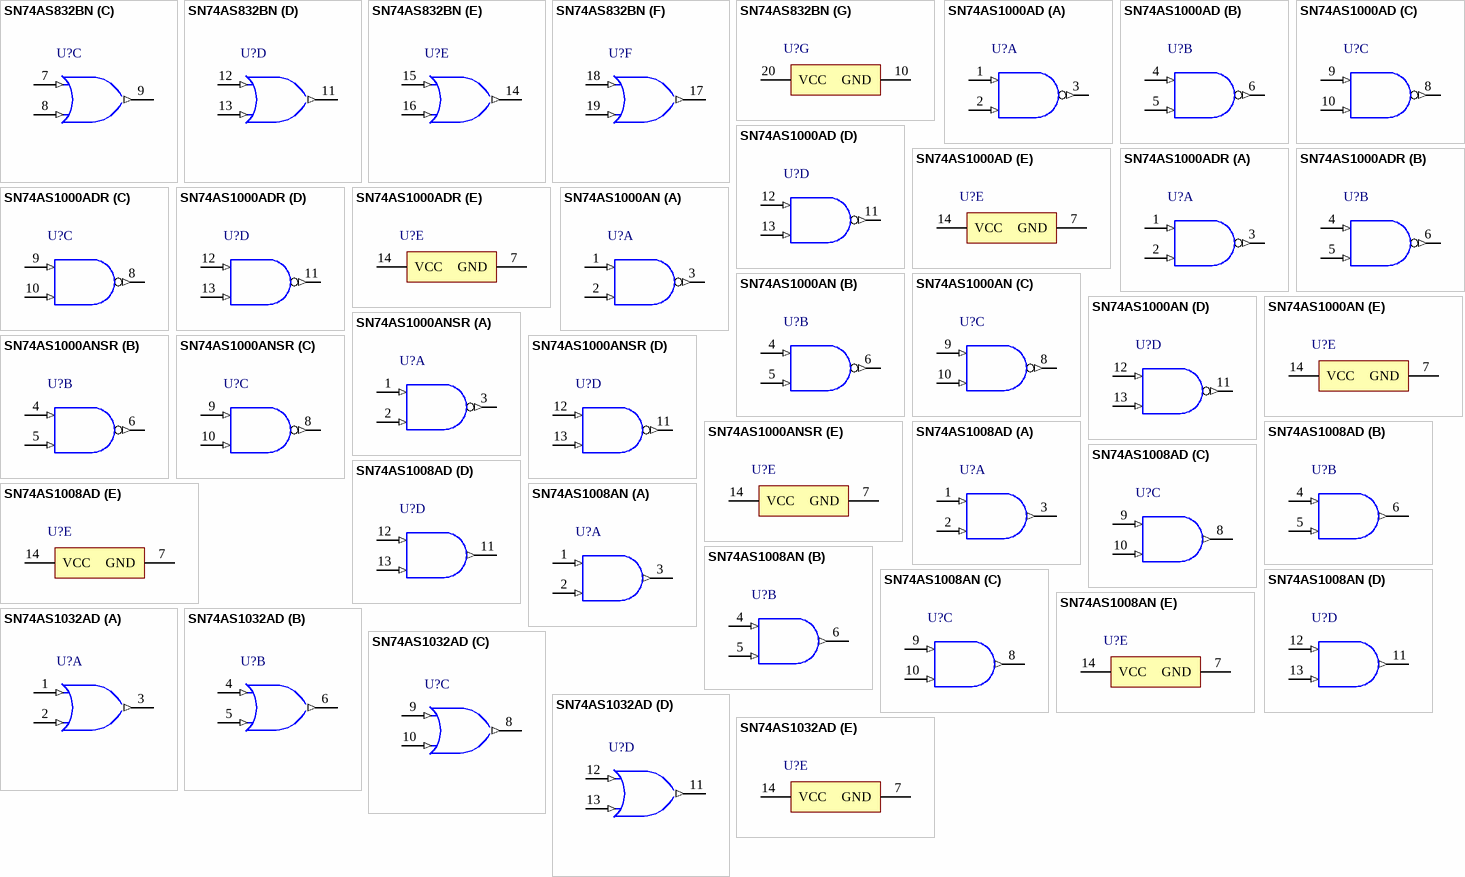
[diagram p121: symbols SN74AS832BN to SN74AS1032AD]

## SN74AS832BN
designator U?
Hex 2-Input OR Drivers, N0020A, TUBE; Generic Part Number: SN74AS832B; Manufacturer: Texas Instruments; PartNumber: SN74AS832BN; VCC(Min)(V): 4.5; VCC(Max)(V): 5.5; Output Type: TTL; ICC @ Nom Voltage(Max)(mA): 0.016; Bits(#): 6; F @ Nom Voltage(Max)(Mhz): 35; Rating: Catalog; Voltage(Nom)(V): 5; Output Drive (IOL/IOH)(Max)(mA): 15/-24; tpd @ Nom Voltage(Max)(ns): 9; DatasheetVersion: SDAS017C; PackageReference: N0020A; Input Type: TTL; Operating Temperature Range(C): 0 to 70; Code_JEDEC: MS-001; ComponentLink1Description: Manufacturer URL; ComponentLink1URL: http://www.ti.com/; ComponentLink2Description: Datasheet; ComponentLink2URL: http://www.ti.com/lit/ds/symlink/sn74as832b.pdf; ComponentLink3Description: Package Specification; ComponentLink3URL: http://www.ti.com/lit/ml/mpdi002c/mpdi002c.pdf
footprint N0020A (DIP, 20-Leads, Body 26.9x6.6mm, Pitch 2.54mm)
part A pins: 1 1A (in), 2 1B (in), 3 1Y (out)
part B pins: 4 2A (in), 5 2B (in), 6 2Y (out)
part C pins: 7 3A (in), 8 3B (in), 9 3Y (out)
part D pins: 11 4Y (out), 12 4A (in), 13 4B (in)
part E pins: 14 5Y (out), 15 5A (in), 16 5B (in)
part F pins: 17 6Y (out), 18 6A (in), 19 6B (in)
part G pins: 10 GND (power), 20 VCC (power)

## SN74AS1000AD
designator U?
Quadruple 2-Input Positive-NAND Buffers/Drivers, D0014A, TUBE; Generic Part Number: SN74AS1000A; Manufacturer: Texas Instruments; PartNumber: SN74AS1000AD; VCC(Min)(V): 4.5; VCC(Max)(V): 5.5; Output Type: TTL; ICC @ Nom Voltage(Max)(mA): 0.019; Bits(#): 4; F @ Nom Voltage(Max)(Mhz): 35; Rating: Catalog; Technology Family: AS; Voltage(Nom)(V): 5; Schmitt Trigger: No; Output Drive (IOL/IOH)(Max)(mA): 48/-48; DatasheetVersion: SDAS056B; PackageReference: D0014A; Supplier 1: Mouser; Supplier Part Number 1: 595-SN74AS1000AD; Supplier 2: Digi-Key; Supplier Part Number 2: 296-6326-5-ND; Input Type: TTL; Operating Temperature Range(C): 0 to 70; tpd @ Nom Voltage(Max)(ns): 4; Code_JEDEC: MS-012; ComponentLink1Description: Manufacturer URL; ComponentLink1URL: http://www.ti.com/; ComponentLink2Description: Datasheet; ComponentLink2URL: http://www.ti.com/lit/ds/symlink/sn74as1000a.pdf; ComponentLink3Description: Package Specification; ComponentLink3URL: http://www.ti.com/lit/ml/mpds177g/mpds177g.pdf
footprint D0014A_N (SOIC, 14-Leads, Body 8.75x4mm, Pitch 1.27mm, IPC Medium Density)
footprint D0014A_M (SOIC, 14-Leads, Body 8.75x4mm, Pitch 1.27mm, IPC Low Density)
footprint D0014A_L (SOIC, 14-Leads, Body 8.75x4mm, Pitch 1.27mm, IPC High Density)
part A pins: 1 1A (in) "Gate 1 input", 2 1B (in) "Gate 1 input", 3 1Y (out) "Gate 1 output"
part B pins: 4 2A (in) "Gate 2 input", 5 2B (in) "Gate 2 input", 6 2Y (out) "Gate 2 output"
part C pins: 8 3Y (out) "Gate 3 output", 9 3A (in) "Gate 3 input", 10 3B (in) "Gate 3 input"
part D pins: 11 4Y (out) "Gate 4 output", 12 4A (in) "Gate 4 input", 13 4B (in) "Gate 4 input"
part E pins: 7 GND (power) "Ground Pin", 14 VCC (power) "Power Pin"

## SN74AS1000ADR
designator U?
Quadruple 2-Input Positive-NAND Buffers/Drivers, D0014A, LARGE T&R; Generic Part Number: SN74AS1000A; Manufacturer: Texas Instruments; PartNumber: SN74AS1000ADR; VCC(Min)(V): 4.5; VCC(Max)(V): 5.5; Output Type: TTL; ICC @ Nom Voltage(Max)(mA): 0.019; Bits(#): 4; F @ Nom Voltage(Max)(Mhz): 35; Rating: Catalog; Technology Family: AS; Voltage(Nom)(V): 5; Schmitt Trigger: No; Output Drive (IOL/IOH)(Max)(mA): 48/-48; DatasheetVersion: SDAS056B; PackageReference: D0014A; Supplier 1: Mouser; Supplier Part Number 1: 595-SN74AS1000ADR; Supplier 2: Digi-Key; Supplier Part Number 2: 296-14791-2-ND; Supplier 3: Digi-Key; Supplier Part Number 3: 296-14791-1-ND; Supplier 4: Digi-Key; Supplier Part Number 4: 296-14791-6-ND; Input Type: TTL; Operating Temperature Range(C): 0 to 70; tpd @ Nom Voltage(Max)(ns): 4; Code_JEDEC: MS-012; ComponentLink1Description: Manufacturer URL; ComponentLink1URL: http://www.ti.com/; ComponentLink2Description: Datasheet; ComponentLink2URL: http://www.ti.com/lit/ds/symlink/sn74as1000a.pdf; ComponentLink3Description: Package Specification; ComponentLink3URL: http://www.ti.com/lit/ml/mpds177g/mpds177g.pdf
footprint D0014A_N (SOIC, 14-Leads, Body 8.75x4mm, Pitch 1.27mm, IPC Medium Density)
footprint D0014A_M (SOIC, 14-Leads, Body 8.75x4mm, Pitch 1.27mm, IPC Low Density)
footprint D0014A_L (SOIC, 14-Leads, Body 8.75x4mm, Pitch 1.27mm, IPC High Density)
part A pins: 1 1A (in) "Gate 1 input", 2 1B (in) "Gate 1 input", 3 1Y (out) "Gate 1 output"
part B pins: 4 2A (in) "Gate 2 input", 5 2B (in) "Gate 2 input", 6 2Y (out) "Gate 2 output"
part C pins: 8 3Y (out) "Gate 3 output", 9 3A (in) "Gate 3 input", 10 3B (in) "Gate 3 input"
part D pins: 11 4Y (out) "Gate 4 output", 12 4A (in) "Gate 4 input", 13 4B (in) "Gate 4 input"
part E pins: 7 GND (power) "Ground Pin", 14 VCC (power) "Power Pin"

## SN74AS1000AN
designator U?
Quadruple 2-Input Positive-NAND Buffers/Drivers, N0014A, TUBE; Generic Part Number: SN74AS1000A; Manufacturer: Texas Instruments; PartNumber: SN74AS1000AN; VCC(Min)(V): 4.5; VCC(Max)(V): 5.5; Output Type: TTL; ICC @ Nom Voltage(Max)(mA): 0.019; Bits(#): 4; F @ Nom Voltage(Max)(Mhz): 35; Rating: Catalog; Technology Family: AS; Voltage(Nom)(V): 5; Schmitt Trigger: No; Output Drive (IOL/IOH)(Max)(mA): 48/-48; DatasheetVersion: SDAS056B; PackageReference: N0014A; Supplier 1: Mouser; Supplier Part Number 1: 595-SN74AS1000AN; Supplier 2: Digi-Key; Supplier Part Number 2: 296-33786-5-ND; Input Type: TTL; Operating Temperature Range(C): 0 to 70; tpd @ Nom Voltage(Max)(ns): 4; Code_JEDEC: MS-001; ComponentLink1Description: Manufacturer URL; ComponentLink1URL: http://www.ti.com/; ComponentLink2Description: Datasheet; ComponentLink2URL: http://www.ti.com/lit/ds/symlink/sn74as1000a.pdf; ComponentLink3Description: Package Specification; ComponentLink3URL: http://www.ti.com/lit/ml/mpdi002c/mpdi002c.pdf
footprint N0014A (DIP, 14-Leads, Body 19.7x6.6mm, Pitch 2.54mm)
part A pins: 1 1A (in) "Gate 1 input", 2 1B (in) "Gate 1 input", 3 1Y (out) "Gate 1 output"
part B pins: 4 2A (in) "Gate 2 input", 5 2B (in) "Gate 2 input", 6 2Y (out) "Gate 2 output"
part C pins: 8 3Y (out) "Gate 3 output", 9 3A (in) "Gate 3 input", 10 3B (in) "Gate 3 input"
part D pins: 11 4Y (out) "Gate 4 output", 12 4A (in) "Gate 4 input", 13 4B (in) "Gate 4 input"
part E pins: 7 GND (power) "Ground Pin", 14 VCC (power) "Power Pin"

## SN74AS1000ANSR
designator U?
Quadruple 2-Input Positive-NAND Buffers/Drivers, NS0014A, LARGE T&R; Generic Part Number: SN74AS1000A; Manufacturer: Texas Instruments; PartNumber: SN74AS1000ANSR; VCC(Min)(V): 4.5; VCC(Max)(V): 5.5; Output Type: TTL; ICC @ Nom Voltage(Max)(mA): 0.019; Bits(#): 4; F @ Nom Voltage(Max)(Mhz): 35; Rating: Catalog; Technology Family: AS; Voltage(Nom)(V): 5; Schmitt Trigger: No; Output Drive (IOL/IOH)(Max)(mA): 48/-48; DatasheetVersion: SDAS056B; PackageReference: NS0014A; Supplier 1: Mouser; Supplier Part Number 1: 595-SN74AS1000ANSR; Supplier 2: Digi-Key; Supplier Part Number 2: 296-28870-2-ND; Supplier 3: Digi-Key; Supplier Part Number 3: 296-28870-1-ND; Supplier 4: Digi-Key; Supplier Part Number 4: 296-28870-6-ND; Input Type: TTL; Operating Temperature Range(C): 0 to 70; tpd @ Nom Voltage(Max)(ns): 4; ComponentLink1Description: Manufacturer URL; ComponentLink1URL: http://www.ti.com/; ComponentLink2Description: Datasheet; ComponentLink2URL: http://www.ti.com/lit/ds/symlink/sn74as1000a.pdf; ComponentLink3Description: Package Specification; ComponentLink3URL: http://www.ti.com/lit/ml/msop002a/msop002a.pdf
footprint NS0014A_N (SOIC,14-Leads,Body 10.5x5.6mm,Pitch 1.27mm,IPC Medium Density)
footprint NS0014A_M (SOIC,14-Leads,Body 10.5x5.6mm,Pitch 1.27mm,IPC Low Density)
footprint NS0014A_L (SOIC,14-Leads,Body 10.5x5.6mm,Pitch 0.4mm,IPC High Density)
part A pins: 1 1A (in) "Gate 1 input", 2 1B (in) "Gate 1 input", 3 1Y (out) "Gate 1 output"
part B pins: 4 2A (in) "Gate 2 input", 5 2B (in) "Gate 2 input", 6 2Y (out) "Gate 2 output"
part C pins: 8 3Y (out) "Gate 3 output", 9 3A (in) "Gate 3 input", 10 3B (in) "Gate 3 input"
part D pins: 11 4Y (out) "Gate 4 output", 12 4A (in) "Gate 4 input", 13 4B (in) "Gate 4 input"
part E pins: 7 GND (power) "Ground Pin", 14 VCC (power) "Power Pin"

## SN74AS1008AD
designator U?
Quadruple 2-Input Positive-AND Buffers/Drivers, D0014A, TUBE; Generic Part Number: SN74AS1008A; Manufacturer: Texas Instruments; PartNumber: SN74AS1008AD; VCC(Min)(V): 4.5; VCC(Max)(V): 5.5; Output Type: TTL; ICC @ Nom Voltage(Max)(mA): 0.0095; Bits(#): 4; F @ Nom Voltage(Max)(Mhz): 125; Rating: Catalog; Technology Family: AS; Voltage(Nom)(V): 5; Schmitt Trigger: No; Output Drive (IOL/IOH)(Max)(mA): -0.4/8; tpd @ Nom Voltage(Max)(ns): 6; DatasheetVersion: SDAS071B; PackageReference: D0014A; Supplier 1: Mouser; Supplier Part Number 1: 595-SN74AS1008AD; Supplier 2: Digi-Key; Supplier Part Number 2: 296-33787-5-ND; Input Type: TTL; Operating Temperature Range(C): 0 to 70; ComponentLink1Description: Manufacturer URL; ComponentLink1URL: http://www.ti.com/; ComponentLink2Description: Datasheet; ComponentLink2URL: http://www.ti.com/lit/ds/symlink/sn74as1008a.pdf
footprint D0014A_N (SOIC, 14-Leads, Body 8.75x4mm, Pitch 1.27mm, IPC Medium Density)
footprint D0014A_M (SOIC, 14-Leads, Body 8.75x4mm, Pitch 1.27mm, IPC Low Density)
footprint D0014A_L (SOIC, 14-Leads, Body 8.75x4mm, Pitch 1.27mm, IPC High Density)
part A pins: 1 1A (in), 2 1B (in), 3 1Y (out)
part B pins: 4 2A (in), 5 2B (in), 6 2Y (out)
part C pins: 8 3Y (out), 9 3A (in), 10 3B (in)
part D pins: 11 4Y (out), 12 4A (in), 13 4B (in)
part E pins: 7 GND (power), 14 VCC (power)

## SN74AS1008AN
designator U?
Quadruple 2-Input Positive-AND Buffers/Drivers, N0014A, TUBE; Generic Part Number: SN74AS1008A; Manufacturer: Texas Instruments; PartNumber: SN74AS1008AN; VCC(Min)(V): 4.5; VCC(Max)(V): 5.5; Output Type: TTL; ICC @ Nom Voltage(Max)(mA): 0.0095; Bits(#): 4; F @ Nom Voltage(Max)(Mhz): 125; Rating: Catalog; Technology Family: AS; Voltage(Nom)(V): 5; Schmitt Trigger: No; Output Drive (IOL/IOH)(Max)(mA): -0.4/8; tpd @ Nom Voltage(Max)(ns): 6; DatasheetVersion: SDAS071B; PackageReference: N0014A; Supplier 1: Mouser; Supplier Part Number 1: 595-SN74AS1008AN; Supplier 2: Digi-Key; Supplier Part Number 2: 296-33788-5-ND; Input Type: TTL; Operating Temperature Range(C): 0 to 70; ComponentLink1Description: Manufacturer URL; ComponentLink1URL: http://www.ti.com/; ComponentLink2Description: Datasheet; ComponentLink2URL: http://www.ti.com/lit/ds/symlink/sn74as1008a.pdf
footprint N0014A (DIP, 14-Leads, Body 19.7x6.6mm, Pitch 2.54mm)
part A pins: 1 1A (in), 2 1B (in), 3 1Y (out)
part B pins: 4 2A (in), 5 2B (in), 6 2Y (out)
part C pins: 8 3Y (out), 9 3A (in), 10 3B (in)
part D pins: 11 4Y (out), 12 4A (in), 13 4B (in)
part E pins: 7 GND (power), 14 VCC (power)

## SN74AS1032AD
designator U?
Quadruple 2-Input Positive-OR Buffers/Drivers, D0014A, TUBE; Generic Part Number: SN74AS1032A; Manufacturer: Texas Instruments; PartNumber: SN74AS1032AD; VCC(Min)(V): 4.5; VCC(Max)(V): 5.5; Output Type: TTL; ICC @ Nom Voltage(Max)(mA): 0.0115; Bits(#): 4; F @ Nom Voltage(Max)(Mhz): 35; Rating: Catalog; Voltage(Nom)(V): 5; Output Drive (IOL/IOH)(Max)(mA): 48/-48; tpd @ Nom Voltage(Max)(ns): 6.3; DatasheetVersion: SDAS072B; PackageReference: D0014A; Input Type: TTL; Operating Temperature Range(C): 0 to 70; Code_JEDEC: MS-012; ComponentLink1Description: Manufacturer URL; ComponentLink1URL: http://www.ti.com/; ComponentLink2Description: Datasheet; ComponentLink2URL: http://www.ti.com/lit/ds/symlink/sn74as1032a.pdf; ComponentLink3Description: Package Specification; ComponentLink3URL: http://www.ti.com/lit/ml/mpds177g/mpds177g.pdf
footprint D0014A_N (SOIC, 14-Leads, Body 8.75x4mm, Pitch 1.27mm, IPC Medium Density)
footprint D0014A_M (SOIC, 14-Leads, Body 8.75x4mm, Pitch 1.27mm, IPC Low Density)
footprint D0014A_L (SOIC, 14-Leads, Body 8.75x4mm, Pitch 1.27mm, IPC High Density)
part A pins: 1 1A (in), 2 1B (in), 3 1Y (out)
part B pins: 4 2A (in), 5 2B (in), 6 2Y (out)
part C pins: 8 3Y (out), 9 3A (in), 10 3B (in)
part D pins: 11 4Y (out), 12 4A (in), 13 4B (in)
part E pins: 7 GND (power), 14 VCC (power)

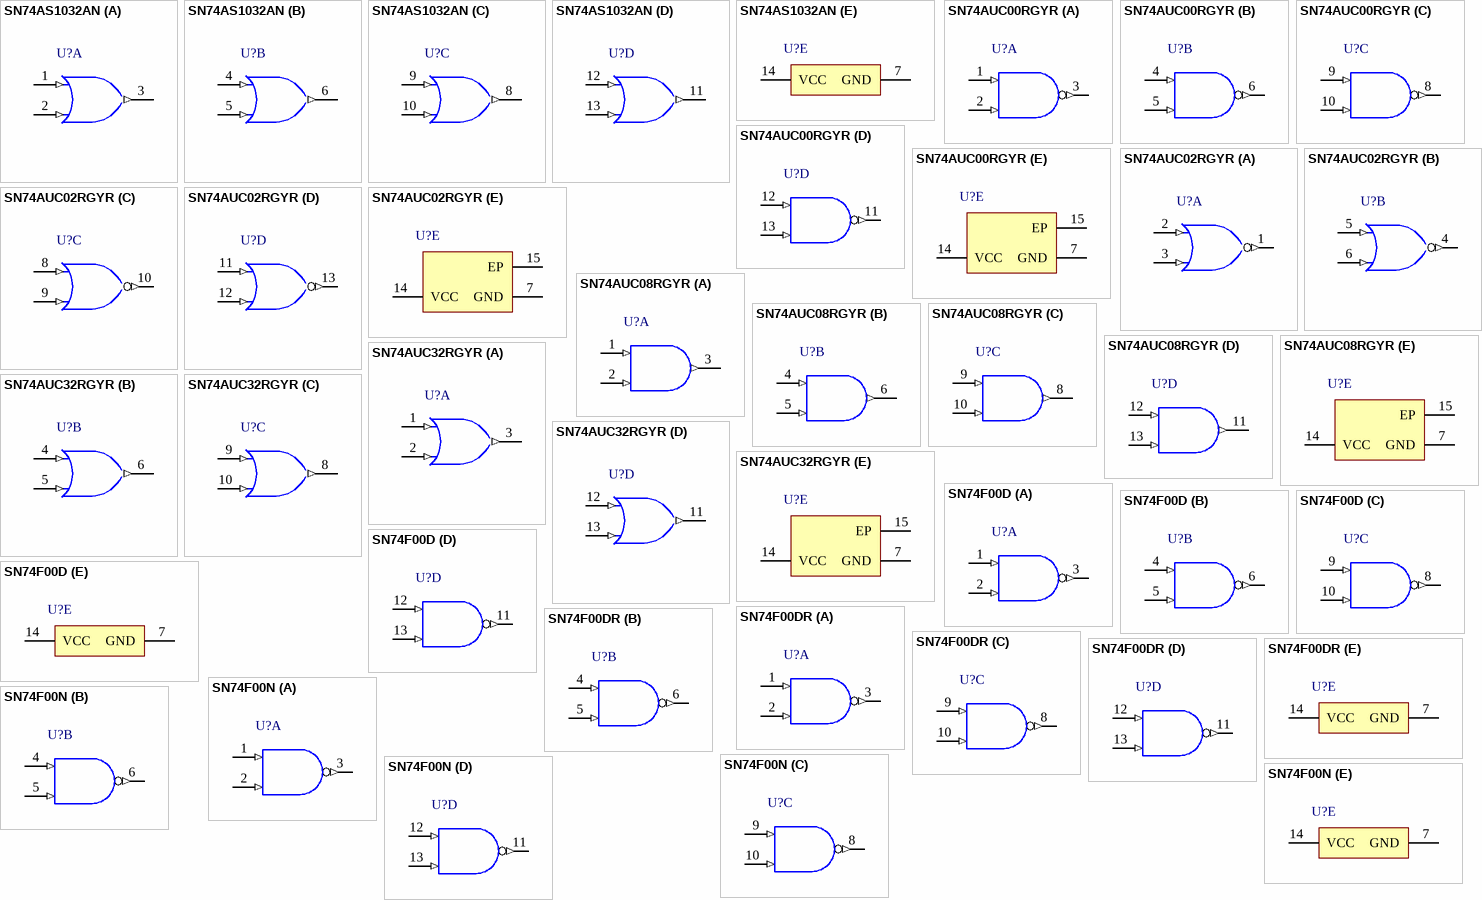
[diagram p122: symbols SN74AS1032AN to SN74F00N]

## SN74AS1032AN
designator U?
Quadruple 2-Input Positive-OR Buffers/Drivers, N0014A, TUBE; Generic Part Number: SN74AS1032A; Manufacturer: Texas Instruments; PartNumber: SN74AS1032AN; VCC(Min)(V): 4.5; VCC(Max)(V): 5.5; Output Type: TTL; ICC @ Nom Voltage(Max)(mA): 0.0115; Bits(#): 4; F @ Nom Voltage(Max)(Mhz): 35; Rating: Catalog; Voltage(Nom)(V): 5; Output Drive (IOL/IOH)(Max)(mA): 48/-48; tpd @ Nom Voltage(Max)(ns): 6.3; DatasheetVersion: SDAS072B; PackageReference: N0014A; Input Type: TTL; Operating Temperature Range(C): 0 to 70; Code_JEDEC: MS-001; ComponentLink1Description: Manufacturer URL; ComponentLink1URL: http://www.ti.com/; ComponentLink2Description: Datasheet; ComponentLink2URL: http://www.ti.com/lit/ds/symlink/sn74as1032a.pdf; ComponentLink3Description: Package Specification; ComponentLink3URL: http://www.ti.com/lit/ml/mpdi002c/mpdi002c.pdf
footprint N0014A (DIP, 14-Leads, Body 19.7x6.6mm, Pitch 2.54mm)
part A pins: 1 1A (in), 2 1B (in), 3 1Y (out)
part B pins: 4 2A (in), 5 2B (in), 6 2Y (out)
part C pins: 8 3Y (out), 9 3A (in), 10 3B (in)
part D pins: 11 4Y (out), 12 4A (in), 13 4B (in)
part E pins: 7 GND (power), 14 VCC (power)

## SN74AUC00RGYR
designator U?
Quadruple 2-Input Positive-NAND Gate, RGY0014A, LARGE T&R; Generic Part Number: SN74AUC00; Manufacturer: Texas Instruments; PartNumber: SN74AUC00RGYR; VCC(Min)(V): 0.8; VCC(Max)(V): 2.7; Output Type: CMOS; ICC @ Nom Voltage(Max)(mA): 0.01; Input Type: TTL; Bits(#): 4; F @ Nom Voltage(Max)(Mhz): 250; Rating: Catalog; Technology Family: AUC; Voltage(Nom)(V): 0.8,1.2,1.5,1.8,2.5; Schmitt Trigger: No; Output Drive (IOL/IOH)(Max)(mA): 9/-9; tpd @ Nom Voltage(Max)(ns): 4.7,3.6,2.6,2,1.1; DatasheetVersion: SCES510A; PackageReference: RGY0014A; Supplier 1: Mouser; Supplier Part Number 1: 595-SN74AUC00RGYR; Supplier 2: Digi-Key; Supplier Part Number 2: 296-16749-2-ND; Supplier 3: Digi-Key; Supplier Part Number 3: 296-16749-1-ND; Supplier 4: Digi-Key; Supplier Part Number 4: 296-16749-6-ND; Operating Temperature Range(C): -40 to 85; Code_JEDEC: MO-241; ComponentLink1Description: Manufacturer URL; ComponentLink1URL: http://www.ti.com/; ComponentLink2Description: Datasheet; ComponentLink2URL: http://www.ti.com/lit/ds/symlink/sn74auc00.pdf; ComponentLink3Description: Package Specification; ComponentLink3URL: http://www.ti.com/lit/ml/mpqf114g/mpqf114g.pdf
footprint RGY0014A_V (QFN, 14-Leads, Body 3.5x3.5mm, Thermal Pad 2.05x2.05mm, TI Recommend)
part A pins: 1 1A (in), 2 1B (in), 3 1Y (out)
part B pins: 4 2A (in), 5 2B (in), 6 2Y (out)
part C pins: 8 3Y (out), 9 3A (in), 10 3B (in)
part D pins: 11 4Y (out), 12 4A (in), 13 4B (in)
part E pins: 7 GND (power), 14 VCC (power), 15 EP

## SN74AUC02RGYR
designator U?
Quadruple 2-Input Positive-NOR Gate, RGY0014A, LARGE T&R; Generic Part Number: SN74AUC02; Manufacturer: Texas Instruments; PartNumber: SN74AUC02RGYR; VCC(Min)(V): 0.8; VCC(Max)(V): 2.7; Output Type: CMOS; Input Type: TTL; Bits(#): 4; Rating: Catalog; tpd @ Nom Voltage(Max)(ns): 3.4,2.4,2.2,1.3; ICC @ Nom Voltage(Max)(mA): 0.01; F @ Nom Voltage(Max)(Mhz): 250; Voltage(Nom)(V): 0.8,1.2,1.8,2.5; Output Drive (IOL/IOH)(Max)(mA): 9/-9; DatasheetVersion: SCES511A; PackageReference: RGY0014A; Operating Temperature Range(C): -40 to 85; Code_JEDEC: MO-241; ComponentLink1Description: Manufacturer URL; ComponentLink1URL: http://www.ti.com/; ComponentLink2Description: Datasheet; ComponentLink2URL: http://www.ti.com/lit/ds/symlink/sn74auc02.pdf; ComponentLink3Description: Package Specification; ComponentLink3URL: http://www.ti.com/lit/ml/mpqf114g/mpqf114g.pdf
footprint RGY0014A_V (QFN, 14-Leads, Body 3.5x3.5mm, Thermal Pad 2.05x2.05mm, TI Recommend)
part A pins: 1 1Y (out) "1Y output", 2 1A (in) "1A input", 3 1B (in) "1B input"
part B pins: 4 2Y (out) "2Y output", 5 2A (in) "2A input", 6 2B (in) "2B input"
part C pins: 8 3A (in) "3A input", 9 3B (in) "3B input", 10 3Y (out) "3Y output"
part D pins: 11 4A (in) "4A input", 12 4B (in) "4B input", 13 4Y (out) "4Y output"
part E pins: 7 GND (power), 14 VCC (power), 15 EP